# Altium footprint library PcbLib1.PcbLib: 4 footprints
Each footprint in its own frame and in the unit in brackets; x right, y up, seen from the top. Pads: shape width x height; smd on the part's side, far side on the other; paste and mask are expansions set on the pad; w line width, h text height; cw(c..) or ccw(c..) is an arc to the next point about the centre after c.
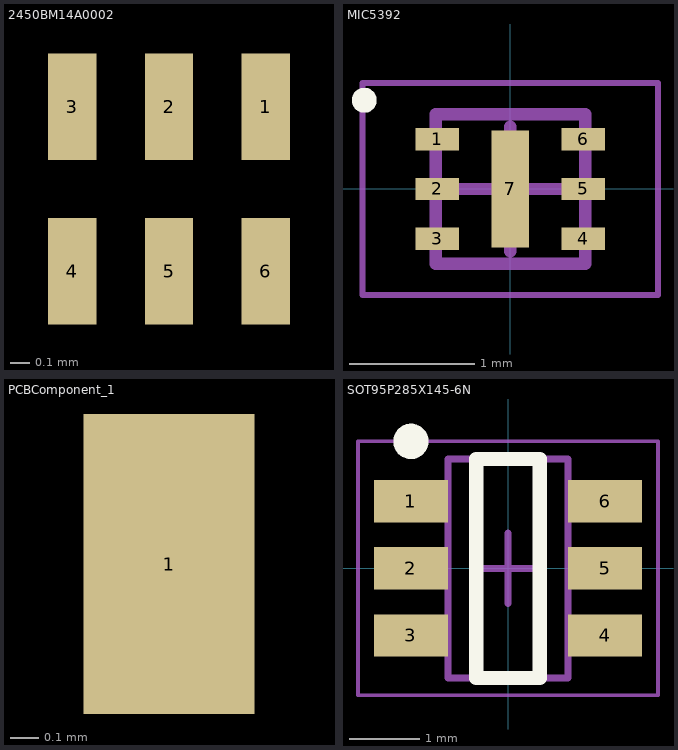
[diagram p0: the footprints below, top view; thin cyan lines are the x and y axes]

## 2450BM14A0002 [mm]
height 0.61
pads (6):
  rect 0.25x0.55 smd: 1(-17.5,-2.75) 2(-18,-2.75) 3(-18.5,-2.75) 4(-18.5,-3.6) 5(-18,-3.6) 6(-17.5,-3.6)

## MIC5392 [mm] "SON, 6-Leads, Body 1.20x1.20mm, Pitch 0.40mm, Thermal Pad 0.94x0.02mm, IPC Medium Density"
height 0.55
pads (7):
  rect 0.35x0.18 smd: 1(-0.585,0.4) 2(-0.585,0) 3(-0.585,-0.4) 4(0.585,-0.4) 5(0.585,0) 6(0.585,0.4)
  rect 0.3x0.94 smd: 7(0,0)
Top Overlay:
  circle w0.1: c-1.172,0.712 r0.05
Mechanical 13:
  lines w0.1: -0.6,-0.6 -0.6,0.6 0.6,0.6 0.6,-0.6 -0.6,-0.6
Mechanical 15:
  lines w0.05: -1.185,-0.85 -1.185,0.85 1.185,0.85 1.185,-0.85 -1.185,-0.85
  lines w0.1: -0.5,0 0.5,0 ; 0,-0.5 0,0.5
3D body "SON40P120X55_HS-7N.step": height 0.55, standoff 0, extent -0.637,-0.6 0.637,0.6

## PCBComponent_1 [mm]
pads (1):
  rect 0.6x1.05 smd: 1(-3.555,-1.16)

## SOT95P285X145-6N [mm] "SOT23, 6-Leads, Body 3.00x2.85mm, Pitch 0.95mm, IPC Medium Density"
height 1.45
pads (6):
  rect 1.05x0.6 smd: 1(-1.375,0.95) 2(-1.375,0) 3(-1.375,-0.95) 4(1.375,-0.95) 5(1.375,0) 6(1.375,0.95)
Top Overlay:
  circle w0.25: c-1.375,1.8 r0.125
  lines w0.2: -0.45,-1.55 0.45,-1.55 0.45,1.55 -0.45,1.55 -0.45,-1.55
Mechanical 13:
  lines w0.1: -0.85,-1.55 -0.85,1.55 0.85,1.55 0.85,-1.55 -0.85,-1.55
Mechanical 15:
  lines w0.05: -2.125,-1.8 -2.125,1.8 2.125,1.8 2.125,-1.8 -2.125,-1.8
  lines w0.1: -0.5,0 0.5,0 ; 0,-0.5 0,0.5
3D body: height 1.45, standoff 0.1, extent -0.85,-1.55 0.85,1.55